# Altium footprint library PTS647SN50SMTR2LFS.PcbLib: 3 footprints
Each footprint in its own frame and in the unit in brackets; x right, y up, seen from the top. Pads: shape width x height; smd on the part's side, far side on the other; paste and mask are expansions set on the pad; w line width, h text height; cw(c..) or ccw(c..) is an arc to the next point about the centre after c.
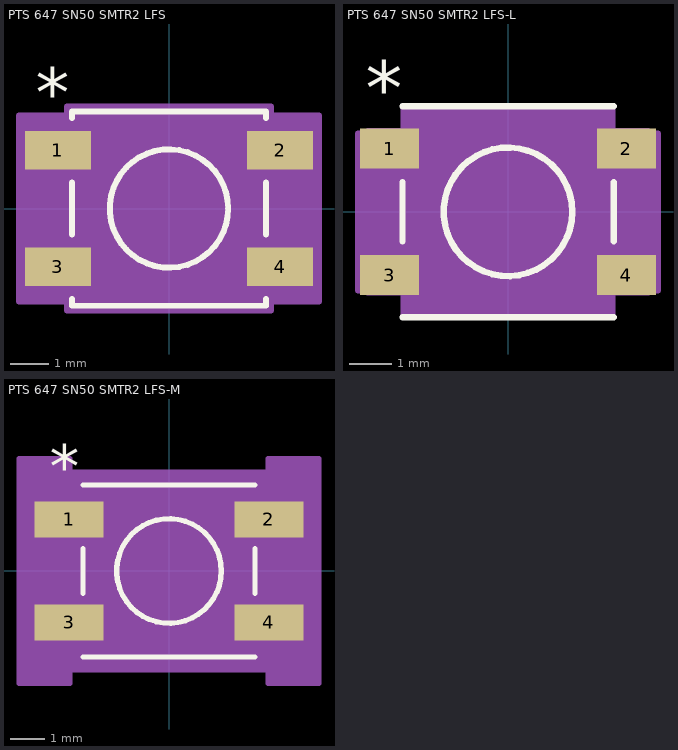
[diagram p0: the footprints below, top view; thin cyan lines are the x and y axes]

## PTS 647 SN50 SMTR2 LFS [mil]
pads (4):
  rect 67x39 smd paste+0 mask+0: 1(-112.5,59.06) 2(112.5,59.06) 3(-112.5,-59.06) 4(112.5,-59.06)
Top Overlay:
  circle w6: c0,0 r60
  lines w6: -98.5,-91.66 -98.5,-98.5 98.5,-98.5 98.5,-91.66 ; -98.5,-26.46 -98.5,26.46 ; -98.5,91.66 -98.5,98.5 98.5,98.5 98.5,91.66 ; 98.5,-26.46 98.5,26.46
  text "*" at -135,93.06 h50
Mechanical 13:
  circle w0: c0,0 r60
  lines w1: -132,-77.56 -93.5,-77.56 -93.5,-40.56 -132,-40.56 -132,-77.56 ; -132,40.56 -93.5,40.56 -93.5,77.56 -132,77.56 -132,40.56 ; -93.5,-93.5 -93.5,93.5 93.5,93.5 93.5,-93.5 -93.5,-93.5 ; 93.5,-77.56 132,-77.56 132,-40.56 93.5,-40.56 93.5,-77.56 ; 93.5,40.56 132,40.56 132,77.56 93.5,77.56 93.5,40.56
  text "*" at -91,33.06 h50
Mechanical 15:
  region: 103.5,-103.5 -103.5,-103.5 -103.5,-94.06 -152,-94.06 -152,94.06 -103.5,94.06 -103.5,103.5 103.5,103.5 103.5,94.06 152,94.06 152,-94.06 103.5,-94.06
  lines w6: -152,-94.06 -152,94.06 -103.5,94.06 -103.5,103.5 103.5,103.5 103.5,94.06 152,94.06 152,-94.06 103.5,-94.06 103.5,-103.5 -103.5,-103.5 -103.5,-94.06 -152,-94.06

## PTS 647 SN50 SMTR2 LFS-L [mil]
pads (4):
  rect 55x37 smd paste+0 mask+0: 1(-110.5,59.06) 2(110.5,59.06) 3(-110.5,-59.06) 4(110.5,-59.06)
Top Overlay:
  circle w6: c0,0 r60
  lines w6: -98.5,-98.5 98.5,-98.5 ; -98.5,-27.46 -98.5,27.46 ; -98.5,98.5 98.5,98.5 ; 98.5,-27.46 98.5,27.46
  text "*" at -133,91.06 h50
Mechanical 13:
  circle w0: c0,0 r60
  lines w1: -132,-77.56 -132,-40.56 -93.5,-40.56 -93.5,-77.56 -132,-77.56 ; -132,40.56 -132,77.56 -93.5,77.56 -93.5,40.56 -132,40.56 ; -93.5,-93.5 93.5,-93.5 93.5,93.5 -93.5,93.5 -93.5,-93.5 ; 93.5,-77.56 93.5,-40.56 132,-40.56 132,-77.56 93.5,-77.56 ; 93.5,40.56 93.5,77.56 132,77.56 132,40.56 93.5,40.56
  text "*" at -91,31.06 h50
Mechanical 15:
  region: 97.5,-97.5 -97.5,-97.5 -97.5,-73.06 -140,-73.06 -140,73.06 -97.5,73.06 -97.5,97.5 97.5,97.5 97.5,73.06 140,73.06 140,-73.06 97.5,-73.06
  lines w6: -140,-73.06 -97.5,-73.06 -97.5,-97.5 97.5,-97.5 97.5,-73.06 140,-73.06 140,73.06 97.5,73.06 97.5,97.5 -97.5,97.5 -97.5,73.06 -140,73.06 -140,-73.06

## PTS 647 SN50 SMTR2 LFS-M [mil]
pads (4):
  rect 79x41 smd paste+0 mask+0: 1(-114.5,59.06) 2(114.5,59.06) 3(-114.5,-59.06) 4(114.5,-59.06)
Top Overlay:
  circle w6: c0,0 r60
  lines w6: -98.5,-98.5 98.5,-98.5 ; -98.5,-25.46 -98.5,25.46 ; -98.5,98.5 98.5,98.5 ; 98.5,-25.46 98.5,25.46
  text "*" at -137,95.06 h50
Mechanical 13:
  circle w0: c0,0 r60
  lines w1: -132,-77.56 -132,-40.56 -93.5,-40.56 -93.5,-77.56 -132,-77.56 ; -132,40.56 -132,77.56 -93.5,77.56 -93.5,40.56 -132,40.56 ; -93.5,-93.5 93.5,-93.5 93.5,93.5 -93.5,93.5 -93.5,-93.5 ; 93.5,-77.56 93.5,-40.56 132,-40.56 132,-77.56 93.5,-77.56 ; 93.5,40.56 93.5,77.56 132,77.56 132,40.56 93.5,40.56
  text "*" at -91,35.06 h50
Mechanical 15:
  region: 113.5,-113.5 -113.5,-113.5 -113.5,-129.06 -172,-129.06 -172,129.06 -113.5,129.06 -113.5,113.5 113.5,113.5 113.5,129.06 172,129.06 172,-129.06 113.5,-129.06
  lines w6: -172,-129.06 -113.5,-129.06 -113.5,-113.5 113.5,-113.5 113.5,-129.06 172,-129.06 172,129.06 113.5,129.06 113.5,113.5 -113.5,113.5 -113.5,129.06 -172,129.06 -172,-129.06